# Altium schematic symbol library MyLibraryV2.SchLib: 572 symbols (part 2 of 11)
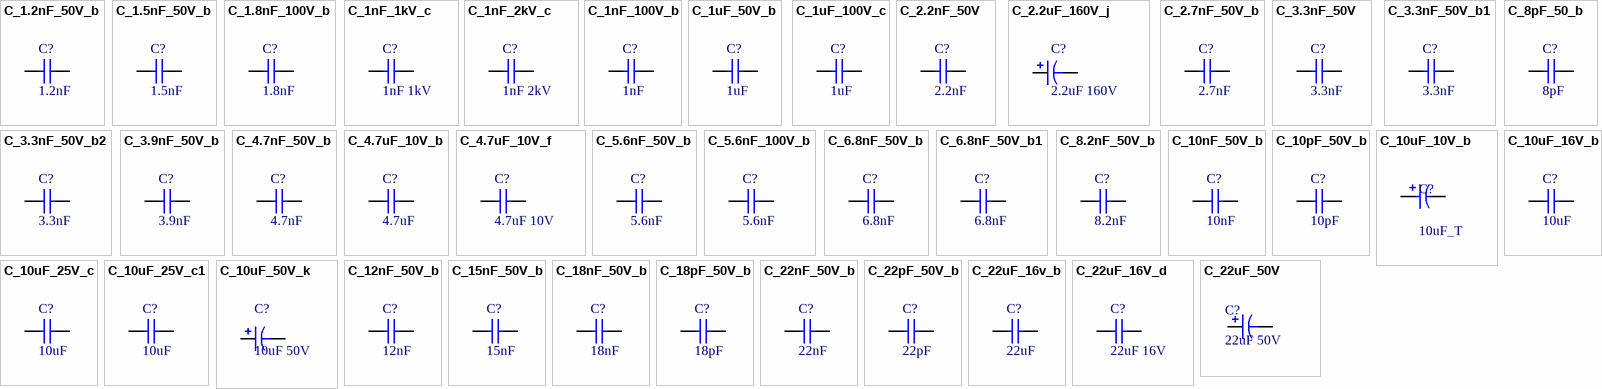
[diagram p17: symbols C_1.2nF_50V_b to C_22uF_50V]

## C_18pF_50V_b
designator C?, comment 18pF
Capacitor SMD 0805; Manufacturer: KEMET; Manufacturer Part Number: C0805C180J5HAC7800; Supplier 1: Digikey; Supplier Part Number 1: 399-C0805C180J5HAC7800CT-ND; RoHS: Yes; Category: Ceramic Capacitors; Stock 1: 24199; Pricing 1: 1=0,1, 10=0,07, 50=0,04, 100=0,031, 500=0,02334, 1000=0,01833 (USD); Value: 18pF
footprint C_0805_2013_b (Chip Capacitor; Body 2.0 x 1.3 mm (LxW typ))
pins: 1, 2

## C_22nF_50V_b
designator C?, comment 22nF
Capacitor SMD 0805; Manufacturer: Samsung; Manufacturer Part Number: CL21B223JBANNNC; Tolerance: 5%; Dielectric: X7R; Voltage Rating: 50V; Mounting Technology: Surface Mount; Case/Package: 0805; Case Code (Metric): 2012; Case Code (Imperial): 0805; Min Operating Temperature: -55°C; Max Operating Temperature: 125°C; Packaging: Tape and Reel; Voltage: 50V; Voltage Rating (DC): 50V; Series: CL; Construction: Flat; Length: 2mm; Height: 0.65mm; Depth: 1.25mm; Radiation Hardening: No; Lead Free: Lead Free; RoHS Compliant: Yes; ComponentLink1URL: https://datasheet.ciiva.com/16437/cl21b223jbannnc-16437275.pdf?src-supplier=Future+Electronics; ComponentLink1Description: https://datasheet.ciiva.com/16437/cl21b223jbannnc-16437275.pdf?src-supplier=Future+Electronics; ComponentLink2URL: https://datasheet.ciiva.com/15195/getdatasheetpartid-357920-15195890.pdf?src-supplier=Verical; ComponentLink2Description: https://datasheet.ciiva.com/15195/getdatasheetpartid-357920-15195890.pdf?src-supplier=Verical; Supplier 1: Digikey; Supplier Part Number 1: 1276-1826-1-ND; RoHS: Yes; Category: Ceramic Capacitors; Stock 1: 298897; Pricing 1: 1=0,1, 10=0,05, 50=0,0286, 100=0,0221, 500=0,01664, 1000=0,01308 (USD); Value: 22nF
footprint C_0805_2013_b (Chip Capacitor; Body 2.0 x 1.3 mm (LxW typ))
pins: 1, 2

## C_22pF_50V_b
designator C?, comment 22pF
Capacitor SMD 0805; Manufacturer: Samsung; Manufacturer Part Number: CL21C220JBANNNC; Material: Ceramic; Tolerance: 5%; Dielectric: C0G; Voltage Rating (DC): 50V; Temperature Coefficient: 300ppm/°C; Mounting Technology: Surface Mount; Case/Package: 0805; Case Code (Metric): 2012; Case Code (Imperial): 0805; Min Operating Temperature: -55°C; Max Operating Temperature: 125°C; Packaging: Tape and Reel; Package Quantity: 1; Voltage Rating: 50V; Voltage: 50V; Series: CL; Construction: Flat; Length: 2mm; Width: 0.049inch; Height: 0.65mm; Depth: 1.25mm; Thickness: 0.03inch; Radiation Hardening: No; Lead Free: Lead Free; RoHS Compliant: Yes; ComponentLink1URL: https://datasheet.ciiva.com/25801/cl21c220jbannnc-25801668.pdf?src-supplier=Digikey; ComponentLink1Description: https://datasheet.ciiva.com/25801/cl21c220jbannnc-25801668.pdf?src-supplier=Digikey; ComponentLink2URL: https://datasheet.ciiva.com/15227/getdatasheetpartid-355345-15227198.pdf?src-supplier=Verical; ComponentLink2Description: https://datasheet.ciiva.com/15227/getdatasheetpartid-355345-15227198.pdf?src-supplier=Verical; ComponentLink3URL: https://datasheet.ciiva.com/29199/454687-da-01-en-vs-kondensator-0805-29199501.pdf?src-supplier=Conrad; ComponentLink3Description: https://datasheet.ciiva.com/29199/454687-da-01-en-vs-kondensator-0805-29199501.pdf?src-supplier=Conrad; ComponentLink4URL: https://datasheet.ciiva.com/16387/cl05b104kq5nnnc-16387287.pdf?src-supplier=Future+Electronics; ComponentLink4Description: https://datasheet.ciiva.com/16387/cl05b104kq5nnnc-16387287.pdf?src-supplier=Future+Electronics; Supplier 1: Digikey; Supplier Part Number 1: 1276-1047-1-ND; RoHS: Yes; Category: Ceramic Capacitors; Stock 1: 12984; Pricing 1: 1=0,1, 10=0,045, 50=0,0258, 100=0,02, 500=0,01502, 1000=0,0118 (USD); Value: 22pF
footprint C_0805_2013_b (Chip Capacitor; Body 2.0 x 1.3 mm (LxW typ))
pins: 1, 2

## C_22uF_16v_b
designator C?, comment 22uF
(Generico) Capacitor SMD 0805; Value: 22uF
footprint C_0805_2013_b (Chip Capacitor; Body 2.0 x 1.3 mm (LxW typ))
pins: 1, 2

## C_22uF_16V_d
designator C?, comment 22uF 16V
Capacitor SMD 1210; Manufacturer: Yageo; Manufacturer Part Number: CC1210KKX5R7BB226; Tolerance: 10%; Dielectric: X5R; Mounting Technology: Surface Mount; Case/Package: 1210; Pins: 2; Case Code (Imperial): 1210; Case Code (Metric): 3225; Weight: 0.000564oz; Min Operating Temperature: -55°C; Max Operating Temperature: 85°C; Voltage Rating (DC): 16V; Packaging: Tape and Reel; Voltage Rating: 16V; Series: CC; Construction: Flat; Length: 3.2mm; Width: 0.098inch; Height: 2.5mm; Thickness: 0.106inch; Depth: 2.5mm; Radiation Hardening: No; Lead Free: Lead Free; Halogen Free: Halogen Free; RoHS Compliant: Yes; Reach SVHC Compliant: Unknown; ComponentLink1URL: http://www.farnell.com/datasheets/2167237.pdf?src-supplier=Farnell; ComponentLink1Description: http://www.farnell.com/datasheets/2167237.pdf?src-supplier=Farnell; ComponentLink2URL: http://www.mouser.com/ds/2/447/Yageo_UPY-GP_NP0_16V-to-50V_9-358835.pdf?src-supplier=Mouser; ComponentLink2Description: http://www.mouser.com/ds/2/447/Yageo_UPY-GP_NP0_16V-to-50V_9-358835.pdf?src-supplier=Mouser; ComponentLink3URL: https://www.verical.com/server-webapp/html/getDatasheet?partID=688496&src-supplier=Verical; ComponentLink3Description: https://www.verical.com/server-webapp/html/getDatasheet?partID=688496&src-supplier=Verical; ComponentLink4URL: http://www.yageo.com/documents/recent/UPY-GPHC_X5R_4V-to-50V_25.pdf?src-supplier=Digikey; ComponentLink4Description: http://www.yageo.com/documents/recent/UPY-GPHC_X5R_4V-to-50V_25.pdf?src-supplier=Digikey; ComponentLink5URL: https://datasheet.octopart.com/CC1210KKX5R7BB226-Yageo-datasheet-158238148.pdf?src-supplier=Farnell; ComponentLink5Description: https://datasheet.octopart.com/CC1210KKX5R7BB226-Yageo-datasheet-158238148.pdf?src-supplier=Farnell; ComponentLink6URL: http://www.yageo.com/documents/recent/UPY-GPHC_X5R_4V-to-50V_12.pdf?src-supplier=Avnet; ComponentLink6Description: http://www.yageo.com/documents/recent/UPY-GPHC_X5R_4V-to-50V_12.pdf?src-supplier=Avnet; ComponentLink7URL: https://datasheet.octopart.com/CC1210KKX5R7BB226-Yageo-datasheet-519481.pdf?src-supplier=Newark; ComponentLink7Description: https://datasheet.octopart.com/CC1210KKX5R7BB226-Yageo-datasheet-519481.pdf?src-supplier=Newark; ComponentLink8URL: https://datasheet.octopart.com/CC1210KKX5R7BB226-Yageo-datasheet-62067349.pdf?src-supplier=Element14; ComponentLink8Description: https://datasheet.octopart.com/CC1210KKX5R7BB226-Yageo-datasheet-62067349.pdf?src-supplier=Element14; ComponentLink9URL: https://datasheet.octopart.com/CC1210KKX5R7BB226-Yageo-datasheet-137875056.pdf?src-supplier=Future+Electronics; ComponentLink9Description: https://datasheet.octopart.com/CC1210KKX5R7BB226-Yageo-datasheet-137875056.pdf?src-supplier=Future+Electronics; Supplier 1: Digikey; Supplier Part Number 1: 311-2018-1-ND; RoHS: Yes; Category: Ceramic Capacitors; Stock 1: 220; Pricing 1: 1=0,42, 10=0,279, 50=0,222, 100=0,1833 (USD); Value: 22uF 16V
footprint C_1210_3225_A (Chip Capacitor, Body 3.2x2.5mm, IPC High Density)
pins: 1, 2

## C_22uF_50V
designator C?, comment 22uF 50V
Value: 22uF 50V
footprint C_SMD_E_8.3x10 (8.3X10mm SMD)
pins: 1, 2

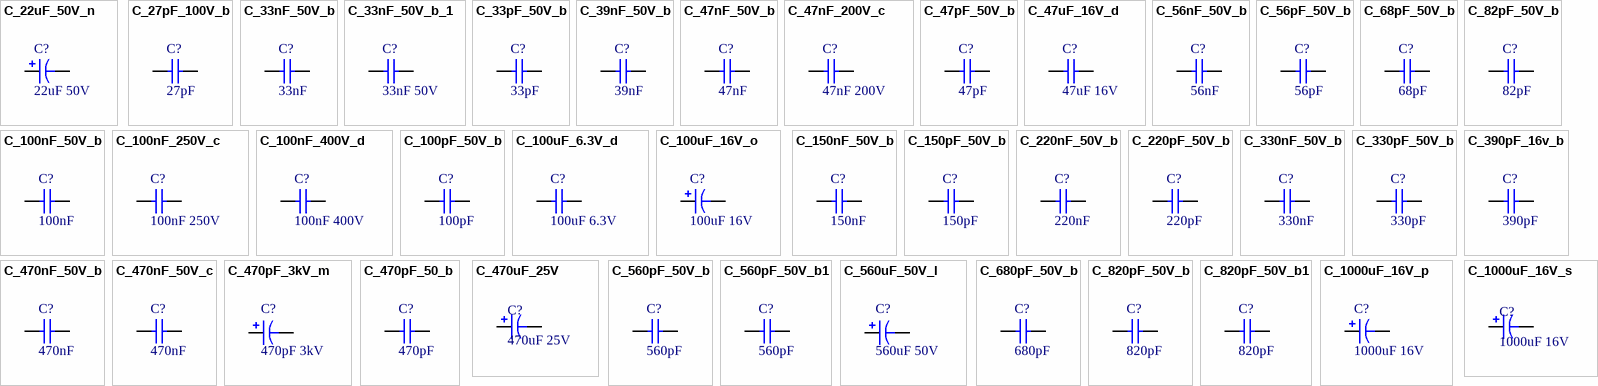
[diagram p1: symbols C_22uF_50V_n to C_1000uF_16V_s]

## C_22uF_50V_n
designator C?, comment 22uF 50V
Capacitor SMD Elec 6.6x5.5; Manufacturer: Wurth Electronics; Manufacturer Part Number: 865080643008; Ripple Current: 150mA; Impedance: 1.3R; Tolerance: 20%; ESR (Equivalent Series Resistance): 959.334mR; Insulation Resistance: 4.54545MR; Leakage Current: 11uA; Mounting Technology: Surface Mount; Case/Package: Radial; Min Operating Temperature: -55°C; Max Operating Temperature: 105°C; Package Quantity: 1; Packaging: Cut Tape; Voltage Rating: 50V; Ripple Current (AC): 150mA; Voltage Rating (DC): 50V; Series: WCAP-ASLI; Diameter: 6.3mm; Length: 5.5mm; Width: 6.6mm; Height: 5.5mm; Height - Seated (Max): 0.217inch; RoHS Compliant: Yes; Reach SVHC Compliant: Unknown; ComponentLink1URL: http://www.farnell.com/datasheets/1880178.pdf?src-supplier=Farnell; ComponentLink1Description: http://www.farnell.com/datasheets/1880178.pdf?src-supplier=Farnell; ComponentLink2URL: https://katalog.we-online.de/pbs/datasheet/865080643008.pdf?src-supplier=Digikey; ComponentLink2Description: https://katalog.we-online.de/pbs/datasheet/865080643008.pdf?src-supplier=Digikey; ComponentLink3URL: http://katalog.we-online.de/pbs/datasheet/865080643008.pdf?src-supplier=Digikey; ComponentLink3Description: http://katalog.we-online.de/pbs/datasheet/865080643008.pdf?src-supplier=Digikey; ComponentLink4URL: http://www.farnell.com/datasheets/1880178.pdf?src-supplier=Element14; ComponentLink4Description: http://www.farnell.com/datasheets/1880178.pdf?src-supplier=Element14; Supplier 1: Digikey; Supplier Part Number 1: 732-8453-1-ND; RoHS: Yes; Category: Aluminum Electrolytic Capacitors; Stock 1: 9772; Pricing 1: 1=0,27, 50=0,234, 100=0,204, 250=0,18, 500=0,158 (USD); Value: 22uF 50V
footprint C_SMD_E_6.6x5.5
pins: 1, 2

## C_27pF_100V_b
designator C?, comment 27pF
Capacitor SMD 0805; Manufacturer: Samsung; Manufacturer Part Number: CL21C270JCANNNC; Tolerance: 5%; Dielectric: C0G; Voltage Rating: 100V; Temperature Coefficient: 300ppm/°C; Mounting Technology: Surface Mount; Case/Package: 0805; Case Code (Metric): 2012; Case Code (Imperial): 0805; Min Operating Temperature: -55°C; Max Operating Temperature: 125°C; Packaging: Tape and Reel; Package Quantity: 1; Voltage: 100V; Voltage Rating (DC): 100V; Series: CL; Construction: Flat; Length: 2mm; Width: 0.049inch; Height: 0.65mm; Depth: 1.25mm; Thickness: 0.03inch; Radiation Hardening: No; Lead Free: Lead Free; RoHS Compliant: Yes; ComponentLink1URL: https://datasheet.ciiva.com/25740/cl21c270jcannnc-25740793.pdf?src-supplier=Digikey; ComponentLink1Description: https://datasheet.ciiva.com/25740/cl21c270jcannnc-25740793.pdf?src-supplier=Digikey; Supplier 1: Digikey; Supplier Part Number 1: 1276-2622-1-ND; RoHS: Yes; Category: Ceramic Capacitors; Stock 1: 72956; Pricing 1: 1=0,1, 10=0,054, 50=0,031, 100=0,024, 500=0,01802, 1000=0,01417 (USD); Value: 27pF
footprint C_0805_2013_b (Chip Capacitor; Body 2.0 x 1.3 mm (LxW typ))
pins: 1, 2

## C_33nF_50V_b
designator C?, comment 33nF
Capacitor SMD 0805; Manufacturer: Kyocera AVX; Manufacturer Part Number: KGM21NR71H333KM; Supplier 1: Digikey; Supplier Part Number 1: 478-KGM21NR71H333KMCT-ND; RoHS: No; Stock 1: 69516; Pricing 1: 1=0,15, 10=0,103, 50=0,0616, 100=0,0485, 500=0,03582, 1000=0,02965, 2500=0,02759, 5000=0,02525 (USD); Value: 33nF
footprint C_0805_2013_b (Chip Capacitor; Body 2.0 x 1.3 mm (LxW typ))
pins: 1, 2

## C_33nF_50V_b_1
designator C?, comment 33nF 50V
(Modificar) Capacitor SMD 0805; Value: 33nF 50V
footprint C_0805_2013_b (Chip Capacitor; Body 2.0 x 1.3 mm (LxW typ))
pins: 1, 2

## C_33pF_50V_b
designator C?, comment 33pF
Capacitor SMD 0805; Manufacturer: KEMET; Manufacturer Part Number: C0805C330J5GACTU; Material: 4241ConductorMaterial; Tolerance: 5%; Dielectric: C0G; Voltage Rating: 50V; Dissipation Factor: 0.5%; Mounting Technology: Surface Mount; Case/Package: 0805; Case Code (Imperial): 0805; Case Code (Metric): 2012; Contact Material: Tin; Min Operating Temperature: -55°C; Max Operating Temperature: 125°C; Voltage Rating (DC): 50V; Packaging: Tape and Reel; Package Quantity: 1; Termination: SMD/SMT; Voltage: 50V; Series: C; Construction: Flat; Voltage Rating (AC): 50V; Length: 2mm; Width: 0.049inch; Height: 0.78mm; Depth: 1.25mm; Lead Pitch: 0.75mm; Thickness: 0.035inch; Radiation Hardening: No; RoHS Compliant: Yes; Lead Free: 5697LeadFree; Reach SVHC Compliant: No; ComponentLink1URL: https://datasheet.ciiva.com/144/docfinderpartnumber-c0805c330j5gactu-144613.pdf?src-supplier=Digikey; ComponentLink1Description: https://datasheet.ciiva.com/144/docfinderpartnumber-c0805c330j5gactu-144613.pdf?src-supplier=Digikey; ComponentLink2URL: https://datasheet.ciiva.com/28668/1789732-28668774.pdf?src-supplier=Element14; ComponentLink2Description: https://datasheet.ciiva.com/28668/1789732-28668774.pdf?src-supplier=Element14; ComponentLink3URL: https://datasheet.ciiva.com/18193/getdatasheetpartid-116050-18193733.pdf?src-supplier=Verical; ComponentLink3Description: https://datasheet.ciiva.com/18193/getdatasheetpartid-116050-18193733.pdf?src-supplier=Verical; Supplier 1: Mouser; Supplier Part Number 1: 80-C0805C330J5G; RoHS: Yes; Category: Ceramic Capacitors; Stock 1: 50987; Pricing 1: 1=0,1, 10=0,025, 50=0,025, 100=0,016, 1000=0,013, 4000=0,012, 10000=0,012, 24000=0,011, 100000=0,008 (USD); Value: 33pF
footprint C_0805_2013_b (Chip Capacitor; Body 2.0 x 1.3 mm (LxW typ))
pins: 1, 2

## C_39nF_50V_b
designator C?, comment 39nF
Capacitor SMD 0805; Manufacturer: Yageo; Manufacturer Part Number: AC0805KRX7R9BB393; Supplier 1: Digikey; Supplier Part Number 1: 13-AC0805KRX7R9BB393CT-ND; RoHS: No; Stock 1: 1436; Pricing 1: 1=0,1, 10=0,05, 50=0,0288, 100=0,0224, 500=0,01682, 1000=0,01322 (USD); Value: 39nF
footprint C_0805_2013_b (Chip Capacitor; Body 2.0 x 1.3 mm (LxW typ))
pins: 1, 2

## C_47nF_50V_b
designator C?, comment 47nF
Capacitor SMD 0805; Manufacturer: Walsin Technologies; Manufacturer Part Number: 0805B473J500CT; Tolerance: 5%; Dielectric: X7R; Voltage Rating: 50V; Case/Package: Ceramic; Case Code (Metric): 2012; Case Code (Imperial): 0805; Min Operating Temperature: -55°C; Max Operating Temperature: 125°C; Packaging: Tape and Reel; Voltage Rating (DC): 50V; Length: 2mm; Depth: 1.25mm; Radiation Hardening: No; Reach SVHC Compliant: Unknown; RoHS Compliant: Yes; ComponentLink1URL: https://datasheet.ciiva.com/26831/getdatasheetpartid-413532-26831404.pdf?src-supplier=Verical; ComponentLink1Description: https://datasheet.ciiva.com/26831/getdatasheetpartid-413532-26831404.pdf?src-supplier=Verical; Supplier 1: Digikey; Supplier Part Number 1: 1292-1583-1-ND; RoHS: Yes; Category: Ceramic Capacitors; Stock 1: 9441; Pricing 1: 1=0,13, 10=0,087, 50=0,052, 100=0,0409, 500=0,03018, 1000=0,02499 (USD); Value: 47nF
footprint C_0805_2013_b (Chip Capacitor; Body 2.0 x 1.3 mm (LxW typ))
pins: 1, 2

## C_47nF_200V_c
designator C?, comment 47nF 200V
Capacitor SMD 1206; Manufacturer: Kyocera AVX; Manufacturer Part Number: KAM31GR72D473KU; Supplier 1: Digikey; Supplier Part Number 1: 478-KAM31GR72D473KUCT-ND; RoHS: No; Category: Uncategorized; Stock 1: 43444; Pricing 1: 1=0,23, 10=0,147, 50=0,103, 100=0,0832, 500=0,0618, 1000=0,05408 (USD); Value: 47nF 200V
footprint C_1206_3216_A
pins: 1, 2

## C_47pF_50V_b
designator C?, comment 47pF
Capacitor SMD 0805; Manufacturer: KEMET; Manufacturer Part Number: C0805C470J5GACTU; Material: 4241ConductorMaterial; Tolerance: 5%; Dielectric: NP0; Voltage Rating: 50V; Dissipation Factor: 0.1%; Mounting Technology: Surface Mount; Case/Package: 0805; Case Code (Imperial): 0805; Case Code (Metric): 2012; Contact Material: Tin; Min Operating Temperature: -55°C; Max Operating Temperature: 125°C; Voltage Rating (DC): 50V; Package Quantity: 1; Packaging: Tape and Reel; Termination: SMD/SMT; Voltage: 50V; Series: C; Construction: Flat; Length: 2mm; Width: 0.049inch; Height: 0.78mm; Depth: 1.25mm; Lead Pitch: 0.75mm; Thickness: 0.035inch; Radiation Hardening: No; Reach SVHC Compliant: No; RoHS Compliant: Yes; Lead Free: 5697LeadFree; ComponentLink1URL: https://datasheet.ciiva.com/6177/1776097-6177451.pdf?src-supplier=Farnell; ComponentLink1Description: https://datasheet.ciiva.com/6177/1776097-6177451.pdf?src-supplier=Farnell; ComponentLink2URL: https://datasheet.ciiva.com/144/docfinderpartnumber-c0805c470j5gactu-144523.pdf?src-supplier=Digikey; ComponentLink2Description: https://datasheet.ciiva.com/144/docfinderpartnumber-c0805c470j5gactu-144523.pdf?src-supplier=Digikey; ComponentLink3URL: https://datasheet.ciiva.com/7842/1776097-7842334.pdf?src-supplier=Element14; ComponentLink3Description: https://datasheet.ciiva.com/7842/1776097-7842334.pdf?src-supplier=Element14; ComponentLink4URL: https://datasheet.ciiva.com/7842/1776097-7842333.pdf?src-supplier=Element14; ComponentLink4Description: https://datasheet.ciiva.com/7842/1776097-7842333.pdf?src-supplier=Element14; ComponentLink5URL: https://datasheet.ciiva.com/28668/1789732-28668810.pdf?src-supplier=Element14; ComponentLink5Description: https://datasheet.ciiva.com/28668/1789732-28668810.pdf?src-supplier=Element14; ComponentLink6URL: https://datasheet.ciiva.com/14589/70095383-14589405.pdf?src-supplier=Allied+Electronics; ComponentLink6Description: https://datasheet.ciiva.com/14589/70095383-14589405.pdf?src-supplier=Allied+Electronics; ComponentLink7URL: https://datasheet.ciiva.com/2988/kem-c1003-c0g-smd-2988662.pdf?src-supplier=Avnet; ComponentLink7Description: https://datasheet.ciiva.com/2988/kem-c1003-c0g-smd-2988662.pdf?src-supplier=Avnet; ComponentLink8URL: https://datasheet.ciiva.com/18193/getdatasheetpartid-385739-18193815.pdf?src-supplier=Verical; ComponentLink8Description: https://datasheet.ciiva.com/18193/getdatasheetpartid-385739-18193815.pdf?src-supplier=Verical; ComponentLink9URL: https://datasheet.ciiva.com/18193/getdatasheetpartid-90952-18193818.pdf?src-supplier=Verical; ComponentLink9Description: https://datasheet.ciiva.com/18193/getdatasheetpartid-90952-18193818.pdf?src-supplier=Verical; Supplier 1: Mouser; Supplier Part Number 1: 80-C0805C470J5G; RoHS: Yes; Category: Ceramic Capacitors; Stock 1: 73357; Pricing 1: 1=0,1, 10=0,031, 50=0,031, 100=0,018, 1000=0,015, 10000=0,01 (USD); Value: 47pF
footprint C_0805_2013_b (Chip Capacitor; Body 2.0 x 1.3 mm (LxW typ))
pins: 1, 2

## C_47uF_16V_d
designator C?, comment 47uF 16V
Capacitor SMD 1210; Manufacturer: Murata; Manufacturer Part Number: GRM32EC81C476KE15L; Material: Ceramic; Tolerance: 10%; Dielectric: X6S; Mounting Technology: Surface Mount; Case/Package: 1210; Case Code (Metric): 3225; Case Code (Imperial): 1210; Weight: 0.00388oz; Min Operating Temperature: -55°C; Max Operating Temperature: 105°C; Packaging: Cut Tape; Voltage Rating: 16V; Voltage: 16V; Termination: SMD/SMT; Voltage Rating (DC): 16V; Package Quantity: 1000; Series: GRM; Length: 3.2mm; Width: 2.5mm; Height: 2.5mm; Thickness: 0.106inch; Depth: 2.5mm; Reach SVHC Compliant: No; Lead Free: Lead Free; RoHS Compliant: Yes; ComponentLink1URL: https://datasheet.ciiva.com/7719/608985-7719176.pdf?src-supplier=Element14; ComponentLink1Description: https://datasheet.ciiva.com/7719/608985-7719176.pdf?src-supplier=Element14; Supplier 1: Digikey; Supplier Part Number 1: 490-10531-1-ND; RoHS: Yes; Category: Ceramic Capacitors; Stock 1: 121314; Pricing 1: 1=0,52, 10=0,348, 50=0,2768, 100=0,2286, 500=0,1786 (USD); Value: 47uF 16V
footprint C_1210_3225_A (Chip Capacitor, Body 3.2x2.5mm, IPC High Density)
pins: 1, 2

## C_56nF_50V_b
designator C?, comment 56nF
Capacitor SMD 0805; Manufacturer: Kyocera AVX; Manufacturer Part Number: 08055C563KAT2A; Tolerance: 10%; Dielectric: X7R; Voltage: 50V; Mounting Technology: Surface Mount; Case/Package: 0805; Pins: 2; Case Code (Metric): 2012; Case Code (Imperial): 0805; Min Operating Temperature: -55°C; Max Operating Temperature: 125°C; Packaging: Tape and Reel; Voltage Rating (DC): 50V; Voltage Rating: 50V; Package Quantity: 4000; Termination: SMD/SMT; Series: -; Construction: Flat; Length: 2.01mm; Height: 0.94mm; Depth: 1.25mm; Size: 0.94mm; Radiation Hardening: No; Reach SVHC Compliant: No; Lead Free: Lead Free; RoHS Compliant: Yes; ComponentLink1URL: https://datasheet.ciiva.com/11787/0900766b80dc2409-11787766.pdf?src-supplier=Rs; ComponentLink1Description: https://datasheet.ciiva.com/11787/0900766b80dc2409-11787766.pdf?src-supplier=Rs; ComponentLink2URL: https://datasheet.ciiva.com/19476/1036591-19476553.pdf?src-supplier=Jameco; ComponentLink2Description: https://datasheet.ciiva.com/19476/1036591-19476553.pdf?src-supplier=Jameco; ComponentLink3URL: https://datasheet.ciiva.com/5412/cx7r-5412810.pdf?src-supplier=Mouser; ComponentLink3Description: https://datasheet.ciiva.com/5412/cx7r-5412810.pdf?src-supplier=Mouser; ComponentLink4URL: https://datasheet.ciiva.com/28535/1818074-28535102.pdf?src-supplier=Element14; ComponentLink4Description: https://datasheet.ciiva.com/28535/1818074-28535102.pdf?src-supplier=Element14; ComponentLink5URL: https://datasheet.ciiva.com/150/cx7r-150632.pdf?src-supplier=Digikey; ComponentLink5Description: https://datasheet.ciiva.com/150/cx7r-150632.pdf?src-supplier=Digikey; ComponentLink6URL: https://datasheet.ciiva.com/150/cx7r-150633.pdf?src-supplier=Digikey; ComponentLink6Description: https://datasheet.ciiva.com/150/cx7r-150633.pdf?src-supplier=Digikey; ComponentLink7URL: https://datasheet.ciiva.com/150/cx7r-150634.pdf?src-supplier=Digikey; ComponentLink7Description: https://datasheet.ciiva.com/150/cx7r-150634.pdf?src-supplier=Digikey; ComponentLink8URL: https://datasheet.ciiva.com/16326/cx7r-16326391.pdf?src-supplier=Future+Electronics; ComponentLink8Description: https://datasheet.ciiva.com/16326/cx7r-16326391.pdf?src-supplier=Future+Electronics; Supplier 1: Digikey; Supplier Part Number 1: 478-1392-1-ND; RoHS: Yes; Category: Ceramic Capacitors; Stock 1: 63708; Pricing 1: 1=0,13, 10=0,091, 50=0,054, 100=0,0425, 500=0,03142, 1000=0,02601 (USD); Value: 56nF
footprint C_0805_2013_b (Chip Capacitor; Body 2.0 x 1.3 mm (LxW typ))
pins: 1, 2

## C_56pF_50V_b
designator C?, comment 56pF
Capacitor SMD 0805; Manufacturer: Yageo; Manufacturer Part Number: CC0805JRNPO9BN560; Tolerance: 5%; Dielectric: C0G; Voltage Rating: 50V; Mounting Technology: Surface Mount; Case/Package: 0805; Case Code (Imperial): 0805; Case Code (Metric): 2012; Min Operating Temperature: -55°C; Max Operating Temperature: 125°C; Package Quantity: 1; Voltage Rating (DC): 50V; Packaging: Tape and Reel; Termination: SMD/SMT; Series: CC; Length: 2mm; Width: 0.049inch; Height: 0.6mm; Depth: 1.25mm; Thickness: 0.024inch; Radiation Hardening: No; Lead Free: Lead Free; RoHS Compliant: Yes; ComponentLink1URL: https://datasheet.ciiva.com/144/mlccorderingcode-144829.pdf?src-supplier=Digikey; ComponentLink1Description: https://datasheet.ciiva.com/144/mlccorderingcode-144829.pdf?src-supplier=Digikey; ComponentLink2URL: https://datasheet.ciiva.com/144/mlccorderingcode-144830.pdf?src-supplier=Digikey; ComponentLink2Description: https://datasheet.ciiva.com/144/mlccorderingcode-144830.pdf?src-supplier=Digikey; ComponentLink3URL: https://datasheet.ciiva.com/144/mlccorderingcode-144831.pdf?src-supplier=Digikey; ComponentLink3Description: https://datasheet.ciiva.com/144/mlccorderingcode-144831.pdf?src-supplier=Digikey; ComponentLink4URL: https://datasheet.ciiva.com/11586/upy-gp-np0-16v-to-50v-8-11586214.pdf?src-supplier=Avnet; ComponentLink4Description: https://datasheet.ciiva.com/11586/upy-gp-np0-16v-to-50v-8-11586214.pdf?src-supplier=Avnet; Supplier 1: Digikey; Supplier Part Number 1: 311-1108-1-ND; RoHS: Yes; Category: Ceramic Capacitors; Stock 1: 36380; Pricing 1: 1=0,1, 10=0,065, 50=0,0376, 100=0,0291, 500=0,02188, 1000=0,01719 (USD); Value: 56pF
footprint C_0805_2013_b (Chip Capacitor; Body 2.0 x 1.3 mm (LxW typ))
pins: 1, 2

## C_68pF_50V_b
designator C?, comment 68pF
Capacitor SMD 0805; Manufacturer: Yageo; Manufacturer Part Number: CC0805JRNPO9BN680; Material: Ceramic; Tolerance: 5%; Dielectric: C0G; Voltage Rating: 50V; Mounting Technology: Surface Mount; Case/Package: 0805; Pins: 2; Case Code (Imperial): 0805; Case Code (Metric): 2012; Min Operating Temperature: -55°C; Max Operating Temperature: 125°C; Package Quantity: 1; Voltage Rating (DC): 50V; Packaging: Tape and Reel; Termination: SMD/SMT; Series: CC; Length: 2mm; Width: 0.049inch; Height: 0.6mm; Depth: 1.25mm; Thickness: 0.024inch; Radiation Hardening: No; Lead Free: Lead Free; RoHS Compliant: Yes; ComponentLink1URL: https://datasheet.ciiva.com/11586/upy-gp-np0-16v-to-50v-8-11586216.pdf?src-supplier=Avnet; ComponentLink1Description: https://datasheet.ciiva.com/11586/upy-gp-np0-16v-to-50v-8-11586216.pdf?src-supplier=Avnet; ComponentLink2URL: https://datasheet.ciiva.com/155/mlccorderingcode-155976.pdf?src-supplier=Digikey; ComponentLink2Description: https://datasheet.ciiva.com/155/mlccorderingcode-155976.pdf?src-supplier=Digikey; ComponentLink3URL: https://datasheet.ciiva.com/155/mlccorderingcode-155977.pdf?src-supplier=Digikey; ComponentLink3Description: https://datasheet.ciiva.com/155/mlccorderingcode-155977.pdf?src-supplier=Digikey; ComponentLink4URL: https://datasheet.ciiva.com/155/mlccorderingcode-155978.pdf?src-supplier=Digikey; ComponentLink4Description: https://datasheet.ciiva.com/155/mlccorderingcode-155978.pdf?src-supplier=Digikey; ComponentLink5URL: https://datasheet.ciiva.com/26829/getdatasheetpartid-318052-26829527.pdf?src-supplier=Verical; ComponentLink5Description: https://datasheet.ciiva.com/26829/getdatasheetpartid-318052-26829527.pdf?src-supplier=Verical; Supplier 1: Digikey; Supplier Part Number 1: 311-1109-1-ND; RoHS: Yes; Category: Ceramic Capacitors; Stock 1: 160042; Pricing 1: 1=0,1, 10=0,065, 50=0,0376, 100=0,0291, 500=0,02188, 1000=0,01719 (USD); Value: 68pF
footprint C_0805_2013_b (Chip Capacitor; Body 2.0 x 1.3 mm (LxW typ))
pins: 1, 2

## C_82pF_50V_b
designator C?, comment 82pF
Capacitor SMD 0805; Manufacturer: Yageo; Manufacturer Part Number: CC0805JRNPO9BN820; Material: Ceramic; Tolerance: 5%; Dielectric: C0G; Voltage Rating: 50V; Mounting Technology: Surface Mount; Case/Package: 0805; Case Code (Imperial): 0805; Case Code (Metric): 2012; Weight: 0.000194oz; Min Operating Temperature: -55°C; Max Operating Temperature: 125°C; Package Quantity: 1; Voltage Rating (DC): 50V; Packaging: Tape and Reel; Termination: SMD/SMT; Series: CC; Length: 2mm; Width: 0.049inch; Height: 0.6mm; Depth: 1.25mm; Thickness: 0.024inch; Radiation Hardening: No; Lead Free: Lead Free; RoHS Compliant: Yes; ComponentLink1URL: https://datasheet.ciiva.com/144/mlccorderingcode-144857.pdf?src-supplier=Digikey; ComponentLink1Description: https://datasheet.ciiva.com/144/mlccorderingcode-144857.pdf?src-supplier=Digikey; ComponentLink2URL: https://datasheet.ciiva.com/144/mlccorderingcode-144858.pdf?src-supplier=Digikey; ComponentLink2Description: https://datasheet.ciiva.com/144/mlccorderingcode-144858.pdf?src-supplier=Digikey; ComponentLink3URL: https://datasheet.ciiva.com/144/mlccorderingcode-144859.pdf?src-supplier=Digikey; ComponentLink3Description: https://datasheet.ciiva.com/144/mlccorderingcode-144859.pdf?src-supplier=Digikey; ComponentLink4URL: https://datasheet.ciiva.com/11586/upy-gp-np0-16v-to-50v-8-11586219.pdf?src-supplier=Avnet; ComponentLink4Description: https://datasheet.ciiva.com/11586/upy-gp-np0-16v-to-50v-8-11586219.pdf?src-supplier=Avnet; ComponentLink5URL: https://datasheet.ciiva.com/15189/getdatasheetpartid-137824-15189191.pdf?src-supplier=Verical; ComponentLink5Description: https://datasheet.ciiva.com/15189/getdatasheetpartid-137824-15189191.pdf?src-supplier=Verical; Supplier 1: Digikey; Supplier Part Number 1: 311-1110-1-ND; RoHS: Yes; Category: Ceramic Capacitors; Stock 1: 89565; Pricing 1: 1=0,1, 10=0,065, 50=0,0376, 100=0,0291, 500=0,02188, 1000=0,01719 (USD); Value: 82pF
footprint C_0805_2013_b (Chip Capacitor; Body 2.0 x 1.3 mm (LxW typ))
pins: 1, 2

## C_100nF_50V_b
designator C?, comment 100nF
Capacitor SMD 0805; Manufacturer: Yageo; Manufacturer Part Number: CC0805KRX7R9BB104; Material: Ceramic; Tolerance: 10%; Dielectric: X7R; Voltage: 50V; Insulation Resistance: 100GR; Mounting Technology: Surface Mount; Case/Package: 0805; Pins: 2; Case Code (Metric): 2012; Case Code (Imperial): 0805; Min Operating Temperature: -55°C; Max Operating Temperature: 125°C; Packaging: Tape and Reel; Voltage Rating: 50V; Package Quantity: 4000; Termination: SMD/SMT; Series: CC; Length: 2mm; Height: 0.85mm; Depth: 1.25mm; Radiation Hardening: No; RoHS Compliant: Yes; Reach SVHC Compliant: No; Halogen Free: 5694HalogenFree; Lead Free: 5697LeadFree; ComponentLink1URL: https://datasheet.ciiva.com/11786/0900766b80d84f1d-11786009.pdf?src-supplier=Rs; ComponentLink1Description: https://datasheet.ciiva.com/11786/0900766b80d84f1d-11786009.pdf?src-supplier=Rs; ComponentLink2URL: https://datasheet.ciiva.com/46393/1734573-46393307.pdf?src-supplier=Element14; ComponentLink2Description: https://datasheet.ciiva.com/46393/1734573-46393307.pdf?src-supplier=Element14; ComponentLink3URL: https://datasheet.ciiva.com/155/mlccorderingcode-155930.pdf?src-supplier=Digikey; ComponentLink3Description: https://datasheet.ciiva.com/155/mlccorderingcode-155930.pdf?src-supplier=Digikey; ComponentLink4URL: https://datasheet.ciiva.com/155/mlccorderingcode-155929.pdf?src-supplier=Digikey; ComponentLink4Description: https://datasheet.ciiva.com/155/mlccorderingcode-155929.pdf?src-supplier=Digikey; ComponentLink5URL: https://datasheet.ciiva.com/155/mlccorderingcode-155931.pdf?src-supplier=Digikey; ComponentLink5Description: https://datasheet.ciiva.com/155/mlccorderingcode-155931.pdf?src-supplier=Digikey; ComponentLink6URL: https://datasheet.ciiva.com/11464/upy-gphc-x7r-6-3v-to-50v-8-11464757.pdf?src-supplier=Avnet; ComponentLink6Description: https://datasheet.ciiva.com/11464/upy-gphc-x7r-6-3v-to-50v-8-11464757.pdf?src-supplier=Avnet; ComponentLink7URL: https://datasheet.ciiva.com/28450/1489800-28450805.pdf?src-supplier=Element14; ComponentLink7Description: https://datasheet.ciiva.com/28450/1489800-28450805.pdf?src-supplier=Element14; ComponentLink8URL: https://datasheet.ciiva.com/29242/445210-da-01-en-kerko-chip-0805-x7r-0-1uf-10proz-50vg-29242074.pdf?src-supplier=Conrad; ComponentLink8Description: https://datasheet.ciiva.com/29242/445210-da-01-en-kerko-chip-0805-x7r-0-1uf-10proz-50vg-29242074.pdf?src-supplier=Conrad; Supplier 1: Digikey; Supplier Part Number 1: 311-1140-1-ND; RoHS: Yes; Category: Ceramic Capacitors; Stock 1: 5306374; Pricing 1: 1=0,1, 10=0,07, 50=0,0418, 100=0,0329, 500=0,02428, 1000=0,0201 (USD); Value: 100nF
footprint C_0805_2013_b (Chip Capacitor; Body 2.0 x 1.3 mm (LxW typ))
pins: 1, 2

## C_100nF_250V_c
designator C?, comment 100nF 250V
Capacitor SMD 1206; Manufacturer: Cal-Chip Electronics; Manufacturer Part Number: CHV1206N250104KXT; Value: 100nF 250V; Supplier 1: Digikey; Supplier Part Number 1: 4713-CHV1206N250104KXTCT-ND; RoHS: Yes; Stock 1: 2840; Pricing 1: 1=0,23, 10=0,147, 50=0,0928, 100=0,0742, 500=0,05358, 1000=0,04739 (USD)
footprint C_1206_3216_A
pins: 1, 2

## C_100nF_400V_d
designator C?, comment 100nF 400V
Capacitor SMD 1210; Value: 100nF 400V
footprint C_1210_3225_A (Chip Capacitor, Body 3.2x2.5mm, IPC High Density)
pins: 1, 2

## C_100pF_50V_b
designator C?, comment 100pF
Capacitor SMD 0805; Manufacturer: Samsung; Manufacturer Part Number: CL21C101JBANNNC; Material: Ceramic; Tolerance: 5%; Dielectric: C0G; Voltage: 50V; Temperature Coefficient: 300ppm/°C; Mounting Technology: Surface Mount; Case/Package: 0805; Case Code (Metric): 2012; Case Code (Imperial): 0805; Min Operating Temperature: -55°C; Max Operating Temperature: 125°C; Voltage Rating (DC): 50V; Voltage Rating: 50V; Packaging: Tape and Reel; Series: CL; Construction: Flat; Length: 2mm; Width: 0.049inch; Height: 0.65mm; Depth: 1.25mm; Thickness: 0.03inch; Radiation Hardening: No; Lead Free: 5697LeadFree; RoHS Compliant: Yes; ComponentLink1URL: https://datasheet.ciiva.com/25710/cl21c101jbannnc-25710193.pdf?src-supplier=Digikey; ComponentLink1Description: https://datasheet.ciiva.com/25710/cl21c101jbannnc-25710193.pdf?src-supplier=Digikey; ComponentLink2URL: https://datasheet.ciiva.com/29199/454082-da-01-en-vs-kondensator-0805-29199900.pdf?src-supplier=Conrad; ComponentLink2Description: https://datasheet.ciiva.com/29199/454082-da-01-en-vs-kondensator-0805-29199900.pdf?src-supplier=Conrad; Supplier 1: Digikey; Supplier Part Number 1: 1276-1014-1-ND; RoHS: Yes; Category: Ceramic Capacitors; Stock 1: 207021; Pricing 1: 1=0,1, 10=0,045, 50=0,0258, 100=0,0201, 500=0,0151, 1000=0,01186 (USD); Value: 100pF
footprint C_0805_2013_b (Chip Capacitor; Body 2.0 x 1.3 mm (LxW typ))
pins: 1, 2

## C_100uF_6.3V_d
designator C?, comment 100uF 6.3V
Capacitor SMD 1210; Manufacturer: Taiyo Yuden; Manufacturer Part Number: JMK325ABJ107MM-P; Tolerance: 20%; Dielectric: X5R; Mounting Technology: Surface Mount; Case/Package: 1210; Case Code (Metric): 3225; Case Code (Imperial): 1210; Min Operating Temperature: -55°C; Max Operating Temperature: 85°C; Packaging: Cut Tape; Voltage Rating: 6.3V; Series: M; Length: 0.126inch; Width: 0.098inch; Thickness: 0.11inch; RoHS Compliant: Yes; ComponentLink1URL: http://ds.yuden.co.jp/TYCOMPAS/ut/detail.do?productNo=JMK325ABJ107MM-P&fileName=JMK325ABJ107MM-P_SS&mode=specSheetDownload&src-supplier=Digikey; ComponentLink1Description: http://ds.yuden.co.jp/TYCOMPAS/ut/detail.do?productNo=JMK325ABJ107MM-P&fileName=JMK325ABJ107MM-P_SS&mode=specSheetDownload&src-supplier=Digikey; ComponentLink2URL: http://www.yuden.co.jp/productdata/catalog/en/mlcc01_e.pdf?src-supplier=Digikey; ComponentLink2Description: http://www.yuden.co.jp/productdata/catalog/en/mlcc01_e.pdf?src-supplier=Digikey; ComponentLink3URL: https://datasheet.octopart.com/JMK325ABJ107MM-P-Taiyo-Yuden-datasheet-154807871.pdf?src-supplier=Master+Electronics; ComponentLink3Description: https://datasheet.octopart.com/JMK325ABJ107MM-P-Taiyo-Yuden-datasheet-154807871.pdf?src-supplier=Master+Electronics; Supplier 1: Digikey; Supplier Part Number 1: 587-4313-1-ND; RoHS: Yes; Category: Ceramic Capacitors; Stock 1: 227111; Pricing 1: 1=0,59, 10=0,393, 50=0,3132, 100=0,2586, 500=0,202 (USD); Value: 100uF 6.3V
footprint C_1210_3225_A (Chip Capacitor, Body 3.2x2.5mm, IPC High Density)
pins: 1, 2

## C_100uF_16V_o
designator C?, comment 100uF 16V
Capacitor SMD Elec F3R; Manufacturer: KEMET; Manufacturer Part Number: EDH107M016A9GAA; RoHS Compliant: Yes; Supplier 1: Mouser; Supplier Part Number 1: 80-EDH107M016A9GAA; RoHS: Yes; Category: Aluminum Electrolytic Capacitors; Stock 1: 15975; Pricing 1: 1=0,37, 10=0,182, 50=0,182, 100=0,117, 1000=0,098, 10000=0,08 (USD); Supplier 2: Digikey; Supplier Part Number 2: 399-EDH107M016A9GAACT-ND; Stock 2: 98; Pricing 2: 1=0,37, 10=0,247, 50=0,1816, 100=0,148, 500=0,1168 (USD); Value: 100uF 16V
footprint C_SMD_F3R
pins: 1, 2

## C_150nF_50V_b
designator C?, comment 150nF
Capacitor SMD 0805; Manufacturer: TDK; Manufacturer Part Number: C2012X7R1H154K125AA; Dielectric Material: Ceramic; Tolerance: 10%; Voltage Rating: 50V; Dielectric: X7R; Mounting Technology: Surface Mount; Case/Package: 0805; Pins: 2; Case Code (Metric): 2012; Case Code (Imperial): 0805; Min Operating Temperature: -55°C; Max Operating Temperature: 125°C; Packaging: Tape and Reel; Package Quantity: 2000; Series: C; Length: 0.079inch; Width: 0.049inch; Thickness: 0.057inch; Depth: 1.25mm; RoHS Compliant: Yes; Lead Free: Lead Free; Reach SVHC Compliant: Unknown; ComponentLink1URL: https://datasheet.ciiva.com/6275/tdkmlcccaprange-6275861.pdf?src-supplier=Digikey; ComponentLink1Description: https://datasheet.ciiva.com/6275/tdkmlcccaprange-6275861.pdf?src-supplier=Digikey; Supplier 1: Digikey; Supplier Part Number 1: 445-7538-1-ND; RoHS: Yes; Category: Ceramic Capacitors; Stock 1: 527; Pricing 1: 1=0,15, 10=0,102, 50=0,061, 100=0,048, 500=0,03542 (USD); Value: 150nF
footprint C_0805_2013_b (Chip Capacitor; Body 2.0 x 1.3 mm (LxW typ))
pins: 1, 2

## C_150pF_50V_b
designator C?, comment 150pF
Capacitor SMD 0805; Manufacturer: KEMET; Manufacturer Part Number: C0805C151J5GACTU; Dielectric Material: Ceramic; Material: 4241ConductorMaterial; Tolerance: 5%; Dielectric: NP0; Voltage Rating: 50V; Dissipation Factor: 0.1%; Temperature Coefficient: 30ppm/°C; Mounting Technology: Surface Mount,PCB; Case/Package: 0805; Pins: 2; Case Code (Metric): 2012; Case Code (Imperial): 0805; Contact Material: Tin; Min Operating Temperature: -55°C; Max Operating Temperature: 125°C; Package Quantity: 1; Packaging: Tape and Reel; Voltage Rating (DC): 50V; Termination: SMD/SMT; Voltage: 50V; Series: C; Construction: Flat; Length: 2mm; Width: 0.049inch; Height: 0.78mm; Depth: 1.25mm; Thickness: 0.035inch; Lead Pitch: 0.75mm; Radiation Hardening: No; RoHS Compliant: Yes; Lead Free: 5697LeadFree; Reach SVHC Compliant: No; ComponentLink1URL: https://datasheet.ciiva.com/7842/1776095-7842215.pdf?src-supplier=Element14; ComponentLink1Description: https://datasheet.ciiva.com/7842/1776095-7842215.pdf?src-supplier=Element14; ComponentLink2URL: https://datasheet.ciiva.com/144/docfinderpartnumber-c0805c151j5gactu-144656.pdf?src-supplier=Digikey; ComponentLink2Description: https://datasheet.ciiva.com/144/docfinderpartnumber-c0805c151j5gactu-144656.pdf?src-supplier=Digikey; ComponentLink3URL: https://datasheet.ciiva.com/7842/1372242-7842559.pdf?src-supplier=Element14; ComponentLink3Description: https://datasheet.ciiva.com/7842/1372242-7842559.pdf?src-supplier=Element14; ComponentLink4URL: https://datasheet.ciiva.com/28668/1789732-28668745.pdf?src-supplier=Element14; ComponentLink4Description: https://datasheet.ciiva.com/28668/1789732-28668745.pdf?src-supplier=Element14; ComponentLink5URL: https://datasheet.ciiva.com/14604/70095383-14604153.pdf?src-supplier=Allied+Electronics; ComponentLink5Description: https://datasheet.ciiva.com/14604/70095383-14604153.pdf?src-supplier=Allied+Electronics; ComponentLink6URL: https://datasheet.ciiva.com/14597/70095383-14597037.pdf?src-supplier=Allied+Electronics; ComponentLink6Description: https://datasheet.ciiva.com/14597/70095383-14597037.pdf?src-supplier=Allied+Electronics; ComponentLink7URL: https://datasheet.ciiva.com/2988/kem-c1003-c0g-smd-2988611.pdf?src-supplier=Avnet; ComponentLink7Description: https://datasheet.ciiva.com/2988/kem-c1003-c0g-smd-2988611.pdf?src-supplier=Avnet; ComponentLink8URL: https://datasheet.ciiva.com/2988/kem-c1003-c0g-smd-2988612.pdf?src-supplier=Avnet; ComponentLink8Description: https://datasheet.ciiva.com/2988/kem-c1003-c0g-smd-2988612.pdf?src-supplier=Avnet; Supplier 1: Mouser; Supplier Part Number 1: 80-C0805C151J5G; RoHS: Yes; Category: Ceramic Capacitors; Stock 1: 52084; Pricing 1: 1=0,1, 10=0,034, 50=0,034, 100=0,02, 1000=0,015, 10000=0,012 (USD); Value: 150pF
footprint C_0805_2013_b (Chip Capacitor; Body 2.0 x 1.3 mm (LxW typ))
pins: 1, 2

## C_220nF_50V_b
designator C?, comment 220nF
Capacitor SMD 0805; Manufacturer: Kyocera AVX; Manufacturer Part Number: KAF21KR71H224JU; Supplier 1: Digikey; Supplier Part Number 1: 478-KAF21KR71H224JUCT-ND; RoHS: No; Stock 1: 5140; Pricing 1: 1=0,16, 10=0,109, 50=0,0648, 100=0,051, 500=0,0377, 1000=0,03121 (USD); Value: 220nF
footprint C_0805_2013_b (Chip Capacitor; Body 2.0 x 1.3 mm (LxW typ))
pins: 1, 2

## C_220pF_50V_b
designator C?, comment 220pF
Capacitor SMD 0805; Manufacturer: Samsung; Manufacturer Part Number: CL21C221JBANNNC; Material: Ceramic; Tolerance: 5%; Dielectric: C0G; Voltage: 50V; Temperature Coefficient: 300ppm/°C; Mounting Technology: Surface Mount; Case/Package: 0805; Case Code (Metric): 2012; Case Code (Imperial): 0805; Min Operating Temperature: -55°C; Max Operating Temperature: 125°C; Voltage Rating (DC): 50V; Series: CL; Package Quantity: 1; Packaging: Tape and Reel; Voltage Rating: 50V; Construction: Flat; Length: 2mm; Width: 0.049inch; Height: 0.65mm; Depth: 1.25mm; Thickness: 0.03inch; Radiation Hardening: No; Lead Free: Lead Free; RoHS Compliant: Yes; ComponentLink1URL: https://datasheet.ciiva.com/25788/cl21c221jbannnc-25788370.pdf?src-supplier=Digikey; ComponentLink1Description: https://datasheet.ciiva.com/25788/cl21c221jbannnc-25788370.pdf?src-supplier=Digikey; ComponentLink2URL: https://datasheet.ciiva.com/29199/453859-da-01-en-vs-kondensator-0805-29199965.pdf?src-supplier=Conrad; ComponentLink2Description: https://datasheet.ciiva.com/29199/453859-da-01-en-vs-kondensator-0805-29199965.pdf?src-supplier=Conrad; ComponentLink3URL: https://datasheet.ciiva.com/16428/cl05b104kq5nnnc-16428917.pdf?src-supplier=Future+Electronics; ComponentLink3Description: https://datasheet.ciiva.com/16428/cl05b104kq5nnnc-16428917.pdf?src-supplier=Future+Electronics; Supplier 1: Digikey; Supplier Part Number 1: 1276-1164-1-ND; RoHS: Yes; Category: Ceramic Capacitors; Stock 1: 145992; Pricing 1: 1=0,1, 10=0,045, 50=0,0262, 100=0,0202, 500=0,01524, 1000=0,01197 (USD); Value: 220pF
footprint C_0805_2013_b (Chip Capacitor; Body 2.0 x 1.3 mm (LxW typ))
pins: 1, 2

## C_330nF_50V_b
designator C?, comment 330nF
Capacitor SMD 0805; Manufacturer: Samsung; Manufacturer Part Number: CL21B334KBFNNNE; Material: 4241ConductorMaterial; Tolerance: 10%; Voltage Rating: 50V; Mounting Technology: Surface Mount; Case/Package: 0805; Case Code (Metric): 2012; Case Code (Imperial): 0805; Min Operating Temperature: -55°C; Max Operating Temperature: 125°C; Packaging: Cut Tape; Series: CL; Voltage Rating (DC): 50V; RoHS Compliant: Yes; ComponentLink1URL: https://datasheet.ciiva.com/25798/cl21b334kbfnnne-25798739.pdf?src-supplier=Digikey; ComponentLink1Description: https://datasheet.ciiva.com/25798/cl21b334kbfnnne-25798739.pdf?src-supplier=Digikey; Supplier 1: Digikey; Supplier Part Number 1: 1276-1123-1-ND; RoHS: Yes; Category: Ceramic Capacitors; Stock 1: 279308; Pricing 1: 1=0,1, 10=0,047, 50=0,0272, 100=0,021, 500=0,01584, 1000=0,01244 (USD); Value: 330nF
footprint C_0805_2013_b (Chip Capacitor; Body 2.0 x 1.3 mm (LxW typ))
pins: 1, 2

## C_330pF_50V_b
designator C?, comment 330pF
Capacitor SMD 0805; Manufacturer: KEMET; Manufacturer Part Number: C0805C331J5GACTU; Material: 4241ConductorMaterial; Tolerance: 5%; Dielectric: C0G; Voltage: 50V; Dissipation Factor: 0.1%; Mounting Technology: Surface Mount,PCB; Case/Package: 0805; Pins: 2NUMBER; Case Code (Imperial): 0805; Case Code (Metric): 2012; Contact Material: Tin; Min Operating Temperature: -55°C; Max Operating Temperature: 125°C; Packaging: Tape and Reel; Termination: SMD/SMT; Package Quantity: 4000; Series: SMD Comm C0G; Voltage Rating: 50V; Voltage Rating (DC): 50V; Construction: Flat; Voltage Rating (AC): 50V; Length: 2mm; Width: 1.2mm; Height: 0.78mm; Depth: 1.25mm; Lead Pitch: 0.75mm; RoHS Compliant: Yes; Lead Free: 5697LeadFree; Reach SVHC Compliant: No; ComponentLink1URL: https://datasheet.ciiva.com/32426/kem-c1003-c0g-eng-tds-32426581.pdf?src-supplier=Distrelec; ComponentLink1Description: https://datasheet.ciiva.com/32426/kem-c1003-c0g-eng-tds-32426581.pdf?src-supplier=Distrelec; Supplier 1: Mouser; Supplier Part Number 1: 80-C0805C331J5G; RoHS: Yes; Category: Ceramic Capacitors; Stock 1: 55761; Pricing 1: 1=0,1, 10=0,039, 50=0,039, 100=0,023, 1000=0,017, 10000=0,012 (USD); Value: 330pF
footprint C_0805_2013_b (Chip Capacitor; Body 2.0 x 1.3 mm (LxW typ))
pins: 1, 2

## C_390pF_16v_b
designator C?, comment 390pF
(Generico) Capacitor SMD 0805; Value: 390pF
footprint C_0805_2013_b (Chip Capacitor; Body 2.0 x 1.3 mm (LxW typ))
pins: 1, 2

## C_470nF_50V_b
designator C?, comment 470nF
Capacitor SMD 0805; Manufacturer: Yageo; Manufacturer Part Number: CC0805JKX7R9BB474; Dielectric: 1511DielectricType; Voltage Rating (DC): 50V; Case/Package: 339Case; Halogen Free: 5694HalogenFree; Lead Free: 5697LeadFree; ComponentLink1URL: https://datasheet.octopart.com/CC0805JKX7R9BB474-Yageo-datasheet-151948686.pdf?src-supplier=Farnell; ComponentLink1Description: https://datasheet.octopart.com/CC0805JKX7R9BB474-Yageo-datasheet-151948686.pdf?src-supplier=Farnell; ComponentLink2URL: https://datasheet.octopart.com/CC0805JKX7R9BB474-Yageo-datasheet-137700084.pdf?src-supplier=Future+Electronics; ComponentLink2Description: https://datasheet.octopart.com/CC0805JKX7R9BB474-Yageo-datasheet-137700084.pdf?src-supplier=Future+Electronics; Supplier 1: Digikey; Supplier Part Number 1: 13-CC0805JKX7R9BB474CT-ND; RoHS: Yes; Category: Ceramic Capacitors; Stock 1: 171; Pricing 1: 1=0,23, 10=0,151, 50=0,0956, 100=0,0764, 500=0,0552, 1000=0,04883 (USD); Value: 470nF
footprint C_0805_2013_b (Chip Capacitor; Body 2.0 x 1.3 mm (LxW typ))
pins: 1, 2

## C_470nF_50V_c
designator C?, comment 470nF
Capacitor SMD 1206; Manufacturer: Samsung; Manufacturer Part Number: CL31B474KBHNNNE; Material: Ceramic; Tolerance: 10%; Dielectric: X7R; Voltage: 50V; Mounting Technology: Surface Mount; Case/Package: 1206; Case Code (Metric): 3216; Case Code (Imperial): 1206; Min Operating Temperature: -55°C; Max Operating Temperature: 125°C; Packaging: Tape and Reel; Voltage Rating: 50V; Series: CL; Construction: Flat; Length: 3.2mm; Height: 1.6mm; Depth: 1.6mm; Radiation Hardening: No; RoHS Compliant: Yes; ComponentLink1URL: https://datasheet.ciiva.com/25710/cl31b474kbhnnne-25710705.pdf?src-supplier=Digikey; ComponentLink1Description: https://datasheet.ciiva.com/25710/cl31b474kbhnnne-25710705.pdf?src-supplier=Digikey; ComponentLink2URL: https://datasheet.ciiva.com/29202/451465-da-01-en-vs-kondensator-1206-29202284.pdf?src-supplier=Conrad; ComponentLink2Description: https://datasheet.ciiva.com/29202/451465-da-01-en-vs-kondensator-1206-29202284.pdf?src-supplier=Conrad; Supplier 1: Digikey; Supplier Part Number 1: 1276-1118-1-ND; RoHS: Yes; Category: Ceramic Capacitors; Stock 1: 681650; Pricing 1: 1=0,17, 10=0,114, 50=0,068, 100=0,0535, 500=0,0395, 1000=0,03269 (USD); Value: 470nF
footprint C_1206_3216_A
pins: 1, 2

## C_470pF_3kV_m
designator C?, comment 470pF 3kV
Capacitor THT Cera 6-7.5; Manufacturer: TDK; Manufacturer Part Number: CK45-B3FD471KYGNA; Tolerance: 10%; Lead/Base Style: Kinked; Mounting Technology: Through Hole; Case/Package: Radial; Contact Plating: Tin; Min Operating Temperature: -25°C; Max Operating Temperature: 105°C; Series: CK45; Packaging: Bulk; Voltage Rating: 3kV; RoHS Compliant: Yes; ComponentLink1URL: https://product.tdk.com/info/en/catalog/datasheets/leaddisc_commercial_ck45_en.pdf?src-supplier=Avnet; ComponentLink1Description: https://product.tdk.com/info/en/catalog/datasheets/leaddisc_commercial_ck45_en.pdf?src-supplier=Avnet; Supplier 1: Digikey; Supplier Part Number 1: 445-181044-ND; RoHS: Yes; Category: Ceramic Capacitors; Stock 1: 8842; Pricing 1: 1=0,5, 10=0,328, 100=0,197, 1000=0,13131, 5000=0,11749, 10000=0,11058 (USD); Value: 470pF 3kV
footprint C_THT_CER_6-7.5 (Radial Cap, Thru-Hole; 2 Leads; 0.3 in Pin Spacing)
pins: 1, 2

## C_470pF_50_b
designator C?, comment 470pF
Capacitor SMD 0805; Manufacturer: KEMET; Manufacturer Part Number: C0805C471J5HAC7800; Supplier 1: Digikey; Supplier Part Number 1: 399-C0805C471J5HAC7800CT-ND; RoHS: No; Category: Uncategorized; Stock 1: 5813; Pricing 1: 1=0,1, 10=0,07, 50=0,04, 100=0,031, 500=0,02334, 1000=0,01833 (USD); Value: 470pF
footprint C_0805_2013_b (Chip Capacitor; Body 2.0 x 1.3 mm (LxW typ))
pins: 1, 2

## C_470uF_25V
designator C?, comment 470uF 25V
Value: 470uF 25V
footprint C_THT_3.5-8X11.5
pins: 1, 2

## C_560pF_50V_b
designator C?, comment 560pF
Capacitor SMD 0805; Manufacturer: Yageo; Manufacturer Part Number: CC0805JRNPO9BN561; Dielectric Material: Ceramic; Tolerance: 5%; Dielectric: C0G; Voltage Rating: 50V; Insulation Resistance: 100GR; Mounting Technology: Surface Mount; Case/Package: 0805; Case Code (Metric): 2012; Case Code (Imperial): 0805; Min Operating Temperature: -55°C; Max Operating Temperature: 125°C; Voltage Rating (DC): 50V; Packaging: Tape and Reel; Package Quantity: 1; Termination: SMD/SMT; Voltage: 50V; Series: CC; Length: 2mm; Width: 0.049inch; Height: 0.6mm; Depth: 1.25mm; Thickness: 0.024inch; Radiation Hardening: No; Lead Free: Lead Free; RoHS Compliant: Yes; Reach SVHC Compliant: Unknown; ComponentLink1URL: https://datasheet.ciiva.com/145/mlccorderingcode-145094.pdf?src-supplier=Digikey; ComponentLink1Description: https://datasheet.ciiva.com/145/mlccorderingcode-145094.pdf?src-supplier=Digikey; ComponentLink2URL: https://datasheet.ciiva.com/145/mlccorderingcode-145095.pdf?src-supplier=Digikey; ComponentLink2Description: https://datasheet.ciiva.com/145/mlccorderingcode-145095.pdf?src-supplier=Digikey; ComponentLink3URL: https://datasheet.ciiva.com/145/mlccorderingcode-145096.pdf?src-supplier=Digikey; ComponentLink3Description: https://datasheet.ciiva.com/145/mlccorderingcode-145096.pdf?src-supplier=Digikey; ComponentLink4URL: https://datasheet.ciiva.com/8033/1734582-8033963.pdf?src-supplier=Element14; ComponentLink4Description: https://datasheet.ciiva.com/8033/1734582-8033963.pdf?src-supplier=Element14; ComponentLink5URL: https://datasheet.ciiva.com/8033/1734582-8033961.pdf?src-supplier=Element14; ComponentLink5Description: https://datasheet.ciiva.com/8033/1734582-8033961.pdf?src-supplier=Element14; ComponentLink6URL: https://datasheet.ciiva.com/26829/getdatasheetpartid-626157-26829525.pdf?src-supplier=Verical; ComponentLink6Description: https://datasheet.ciiva.com/26829/getdatasheetpartid-626157-26829525.pdf?src-supplier=Verical; Supplier 1: Digikey; Supplier Part Number 1: 311-1120-1-ND; RoHS: Yes; Category: Ceramic Capacitors; Stock 1: 55563; Pricing 1: 1=0,12, 10=0,079, 50=0,0472, 100=0,0371, 500=0,02738, 1000=0,02267 (USD); Value: 560pF
footprint C_0805_2013_b (Chip Capacitor; Body 2.0 x 1.3 mm (LxW typ))
pins: 1, 2

## C_560pF_50V_b1
designator C?, comment 560pF
Capacitor SMD 0805; Manufacturer: KEMET; Manufacturer Part Number: C0805C561K5HAC7800; Supplier 1: Digikey; Supplier Part Number 1: 399-C0805C561K5HAC7800CT-ND; RoHS: No; Category: Ceramic Capacitors; Stock 1: 12360; Pricing 1: 1=0,1, 10=0,07, 50=0,04, 100=0,031, 500=0,02334, 1000=0,01833 (USD); Value: 560pF
footprint C_0805_2013_b (Chip Capacitor; Body 2.0 x 1.3 mm (LxW typ))
pins: 1, 2

## C_560uF_50V_l
designator C?, comment 560uF 50V
Capacitor THT Elec  10x25; Manufacturer: Rubycon; Manufacturer Part Number: 50ZLJ560M12.5X20; Tolerance: 20%; Mounting Technology: Through Hole; Case/Package: Radial; Min Operating Temperature: -40°C; Max Operating Temperature: 105°C; Package Quantity: 1000; Packaging: Bulk; Voltage Rating: 50V; Series: ZLJ; Lead Pitch: 0.197inch; Height - Seated (Max): 0.866inch; ComponentLink1URL: http://www.rubycon.co.jp/en/catalog/e_pdfs/aluminum/e_zlj.pdf?src-supplier=Digikey; ComponentLink1Description: http://www.rubycon.co.jp/en/catalog/e_pdfs/aluminum/e_zlj.pdf?src-supplier=Digikey; Supplier 1: Digikey; Supplier Part Number 1: 1189-4035-ND; RoHS: Yes; Category: Aluminum Electrolytic Capacitors; Stock 1: 354021; Pricing 1: 1=0,7, 10=0,492, 50=0,4144, 100=0,3374, 500=0,28114, 1000=0,23674, 2500=0,22195, 5000=0,20715 (USD); Value: 560uF 50V
footprint C_THT_E_10x25-5
pins: 1, 2